# Altium schematic symbol library ArduinoMiniPro.SchLib: 2 symbols
Pins are listed as number, name and electrical type; pins without a type are passive.

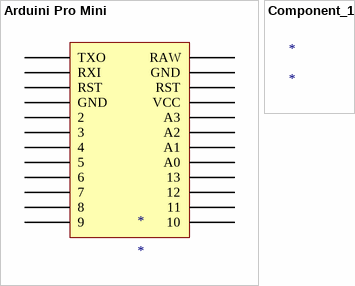
[diagram p0: symbols Arduini Pro Mini to Component_1]

## Arduini Pro Mini
designator *
pins: 1 TXO, 1 RST, 89 RAW, 90 GND, 91 RST, 92 GND, 92 VCC, 93 2, 93 A3, 94 3, 94 A2, 95 4, 95 A1, 96 5, 96 A0, 97 6, 97 13, 98 7, 98 12, 99 8, 99 11, 100 9, 100 10, RXI

## Component_1
designator *